# Altium integrated library Renesas Microcontroller H8S.IntLib: 670 symbols (part 66 of 70)
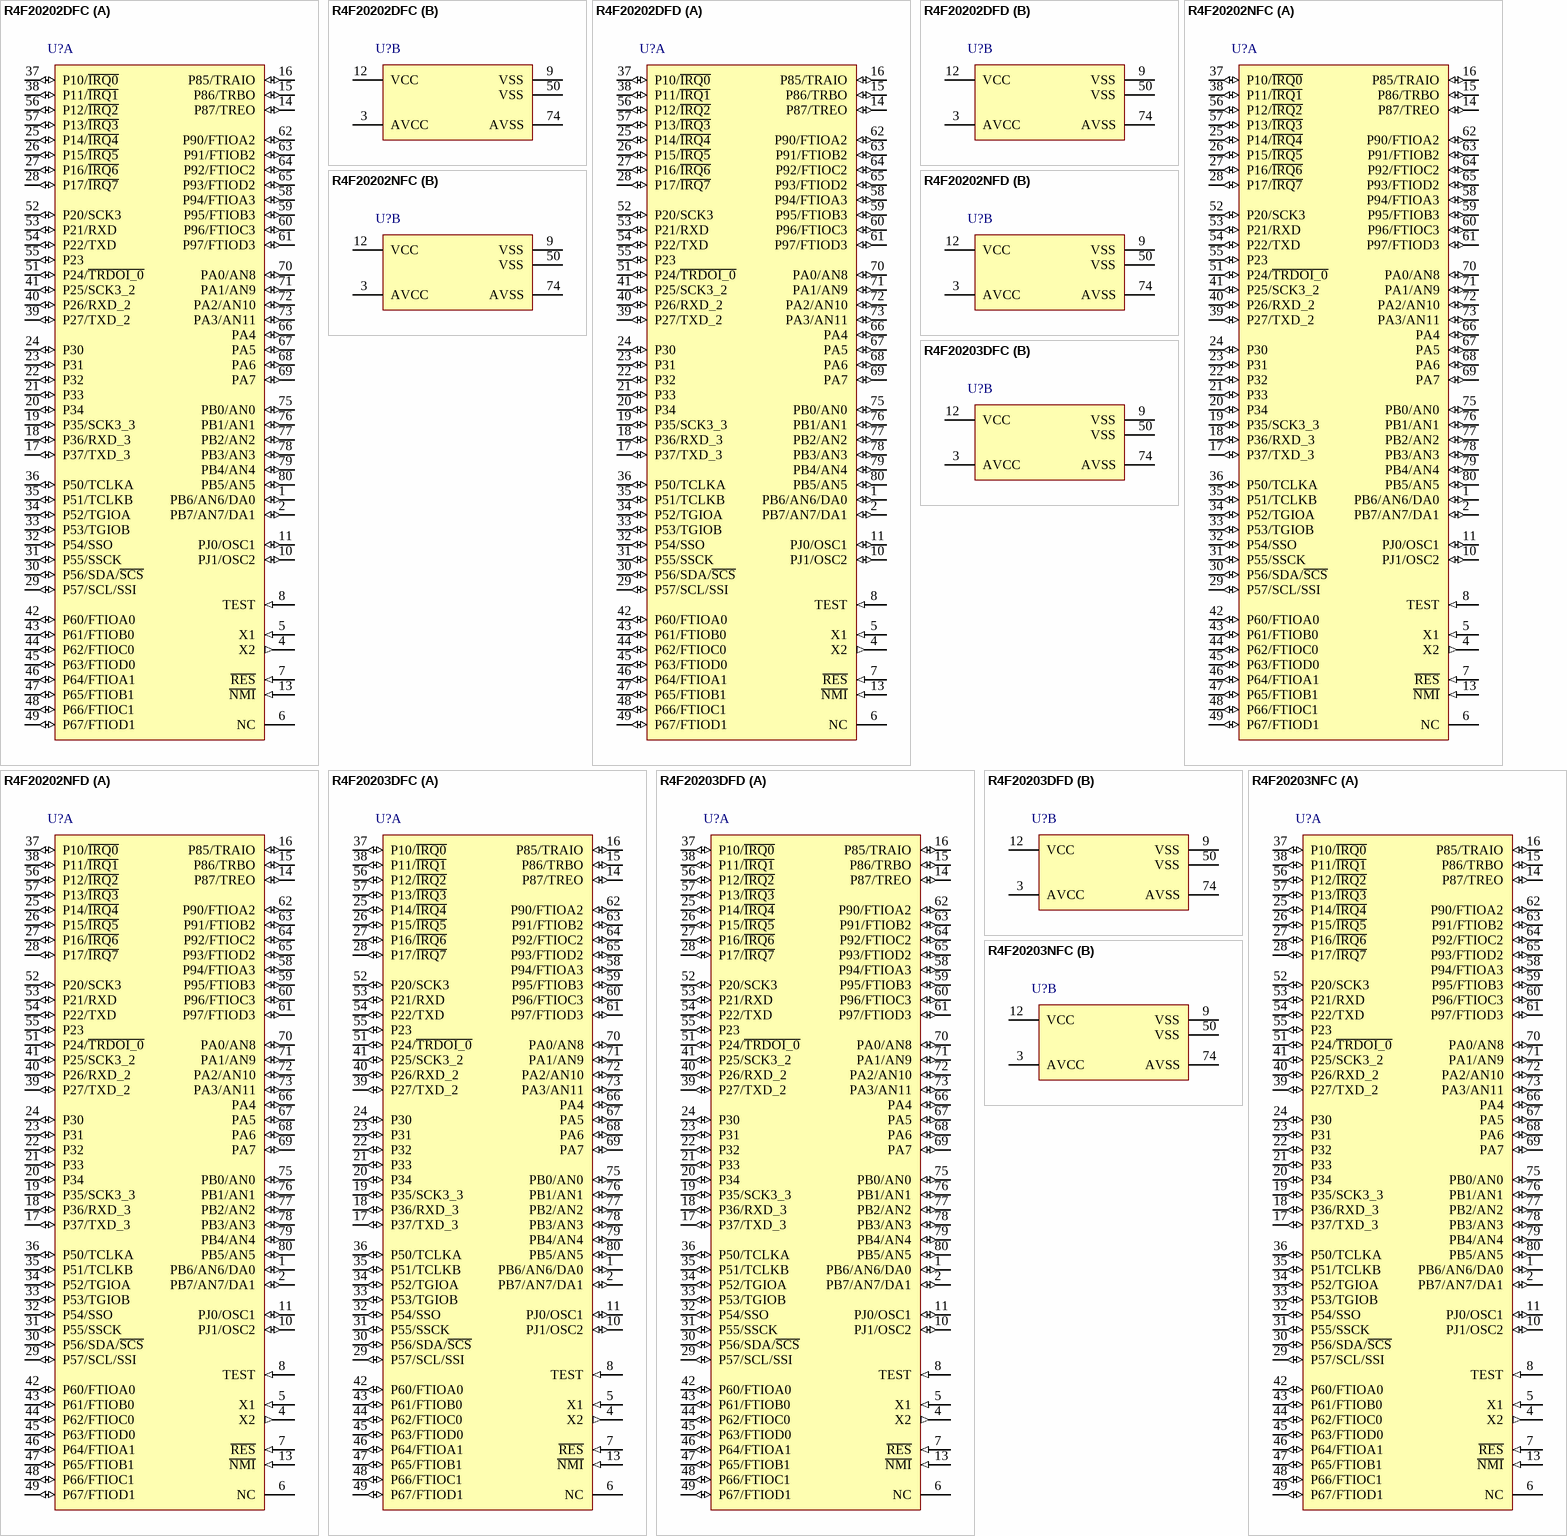
[diagram p377: symbols R4F20202DFC to R4F20203NFC]

## R4F20202DFD
designator U?
Flash memory H8S/Tiny Series, 20203 Group MCU, 96K ROM, 8K RAM, FP-80W Pkg; Published: 28-Aug-2009; DatasheetVersion: Rev.2.00, Jun-2009; PackageVersion: Sep-2005; PackageReference: PLQP0080JA-A; Publisher: Altium Limited; PackageDescription: 80-Pin Plastic Low Profile QFP, 14 x 14 x 1.4 mm Body, 0.65 mm Pitch; Code_JEITA: P-LQFP80-14x14-0.65; ComponentLink1Description: Manufacturer Link; ComponentLink1URL: http://sg.renesas.com/fmwk.jsp?cnt=h8s_family_landing.jsp&fp=/products/mpumcu/h8s_family/; ComponentLink2Description: Datasheet; ComponentLink2URL: http://documentation.renesas.com/eng/products/mpumcu/rej09b0465_h8s20103hm.pdf; ComponentLink3Description: Packaging Specification; ComponentLink3URL: http://sg.renesas.com/media/products/common_info/package/pdf/ic/code/plqp0080ja_a.pdf
footprint PLQP0080JA-A_N (QFP, 80-Leads, Body 14x14mm, Pitch 0.65mm, IPC Medium Density)
footprint PLQP0080JA-A_L (QFP, 80-Leads, Body 14x14mm, Pitch 0.65mm, IPC High Density)
footprint PLQP0080JA-A_M (QFP, 80-Leads, Body 14x14mm, Pitch 0.65mm, IPC Low Density)
part A pins: 1 PB6/AN6/DA0 (io), 2 PB7/AN7/DA1 (io), 4 X2 (out), 5 X1 (in), 6 NC, 7 ~{RES} (in), 8 TEST (in), 10 PJ1/OSC2 (io), 11 PJ0/OSC1 (io), 13 ~{NMI} (in), 14 P87/TREO (io), 15 P86/TRBO (io), 16 P85/TRAIO (io), 17 P37/TXD_3 (io), 18 P36/RXD_3 (io), 19 P35/SCK3_3 (io), 20 P34 (io), 21 P33 (io), 22 P32 (io), 23 P31 (io), 24 P30 (io), 25 P14/~{IRQ4} (io), 26 P15/~{IRQ5} (io), 27 P16/~{IRQ6} (io), 28 P17/~{IRQ7} (io), 29 P57/SCL/SSI (io), 30 P56/SDA/~{SCS} (io), 31 P55/SSCK (io), 32 P54/SSO (io), 33 P53/TGIOB (io), 34 P52/TGIOA (io), 35 P51/TCLKB (io), 36 P50/TCLKA (io), 37 P10/~{IRQ0} (io), 38 P11/~{IRQ1} (io), 39 P27/TXD_2 (io), 40 P26/RXD_2 (io), 41 P25/SCK3_2 (io), 42 P60/FTIOA0 (io), 43 P61/FTIOB0 (io), 44 P62/FTIOC0 (io), 45 P63/FTIOD0 (io), 46 P64/FTIOA1 (io), 47 P65/FTIOB1 (io), 48 P66/FTIOC1 (io), 49 P67/FTIOD1 (io), 51 P24/~{TRDOI_0} (io), 52 P20/SCK3 (io), 53 P21/RXD (io), 54 P22/TXD (io), 55 P23 (io), 56 P12/~{IRQ2} (io), 57 P13/~{IRQ3} (io), 58 P94/FTIOA3 (io), 59 P95/FTIOB3 (io), 60 P96/FTIOC3 (io), 61 P97/FTIOD3 (io), 62 P90/FTIOA2 (io), 63 P91/FTIOB2 (io), 64 P92/FTIOC2 (io), 65 P93/FTIOD2 (io), 66 PA4 (io), 67 PA5 (io), 68 PA6 (io), 69 PA7 (io), 70 PA0/AN8 (io), 71 PA1/AN9 (io), 72 PA2/AN10 (io), 73 PA3/AN11 (io), 75 PB0/AN0 (io), 76 PB1/AN1 (io), 77 PB2/AN2 (io), 78 PB3/AN3 (io), 79 PB4/AN4 (io), 80 PB5/AN5 (io)
part B pins: 3 AVCC (power), 9 VSS (power), 12 VCC (power), 50 VSS (power), 74 AVSS (power)

## R4F20202NFC
designator U?
Flash memory H8S/Tiny Series, 20203 Group MCU, 96K ROM, 8K RAM, 80P6Q-A Pkg; Published: 28-Aug-2009; DatasheetVersion: Rev.2.00, Jun-2009; PackageVersion: Sep-2005; PackageReference: PLQP0080KB-A; Publisher: Altium Limited; PackageDescription: 80-Pin Plastic Low Profile QFP, 12 x 12 x 1.4 mm Body, 0.5 mm Pitch; Code_JEITA: P-LQFP80-12x12-0.50; Code_IPC: SQFP50P1400X1400-80; ComponentLink1Description: Manufacturer Link; ComponentLink1URL: http://sg.renesas.com/fmwk.jsp?cnt=h8s_family_landing.jsp&fp=/products/mpumcu/h8s_family/; ComponentLink2Description: Datasheet; ComponentLink2URL: http://documentation.renesas.com/eng/products/mpumcu/rej09b0465_h8s20103hm.pdf; ComponentLink3Description: Packaging Specification; ComponentLink3URL: http://sg.renesas.com/media/products/common_info/package/pdf/ic/code/plqp0080kb_a.pdf
footprint PLQP0080KB-A_N (Shrink QFP, 80-Leads, Body 12x12mm, Pitch 0.5mm, IPC Medium Density)
footprint PLQP0080KB-A_L (Shrink QFP, 80-Leads, Body 12x12mm, Pitch 0.5mm, IPC High Density)
footprint PLQP0080KB-A_M (Shrink QFP, 80-Leads, Body 12x12mm, Pitch 0.5mm, IPC Low Density)
part A pins: 1 PB6/AN6/DA0 (io), 2 PB7/AN7/DA1 (io), 4 X2 (out), 5 X1 (in), 6 NC, 7 ~{RES} (in), 8 TEST (in), 10 PJ1/OSC2 (io), 11 PJ0/OSC1 (io), 13 ~{NMI} (in), 14 P87/TREO (io), 15 P86/TRBO (io), 16 P85/TRAIO (io), 17 P37/TXD_3 (io), 18 P36/RXD_3 (io), 19 P35/SCK3_3 (io), 20 P34 (io), 21 P33 (io), 22 P32 (io), 23 P31 (io), 24 P30 (io), 25 P14/~{IRQ4} (io), 26 P15/~{IRQ5} (io), 27 P16/~{IRQ6} (io), 28 P17/~{IRQ7} (io), 29 P57/SCL/SSI (io), 30 P56/SDA/~{SCS} (io), 31 P55/SSCK (io), 32 P54/SSO (io), 33 P53/TGIOB (io), 34 P52/TGIOA (io), 35 P51/TCLKB (io), 36 P50/TCLKA (io), 37 P10/~{IRQ0} (io), 38 P11/~{IRQ1} (io), 39 P27/TXD_2 (io), 40 P26/RXD_2 (io), 41 P25/SCK3_2 (io), 42 P60/FTIOA0 (io), 43 P61/FTIOB0 (io), 44 P62/FTIOC0 (io), 45 P63/FTIOD0 (io), 46 P64/FTIOA1 (io), 47 P65/FTIOB1 (io), 48 P66/FTIOC1 (io), 49 P67/FTIOD1 (io), 51 P24/~{TRDOI_0} (io), 52 P20/SCK3 (io), 53 P21/RXD (io), 54 P22/TXD (io), 55 P23 (io), 56 P12/~{IRQ2} (io), 57 P13/~{IRQ3} (io), 58 P94/FTIOA3 (io), 59 P95/FTIOB3 (io), 60 P96/FTIOC3 (io), 61 P97/FTIOD3 (io), 62 P90/FTIOA2 (io), 63 P91/FTIOB2 (io), 64 P92/FTIOC2 (io), 65 P93/FTIOD2 (io), 66 PA4 (io), 67 PA5 (io), 68 PA6 (io), 69 PA7 (io), 70 PA0/AN8 (io), 71 PA1/AN9 (io), 72 PA2/AN10 (io), 73 PA3/AN11 (io), 75 PB0/AN0 (io), 76 PB1/AN1 (io), 77 PB2/AN2 (io), 78 PB3/AN3 (io), 79 PB4/AN4 (io), 80 PB5/AN5 (io)
part B pins: 3 AVCC (power), 9 VSS (power), 12 VCC (power), 50 VSS (power), 74 AVSS (power)

## R4F20202NFD
designator U?
Flash memory H8S/Tiny Series, 20203 Group MCU, 96K ROM, 8K RAM, FP-80W Pkg; Published: 28-Aug-2009; DatasheetVersion: Rev.2.00, Jun-2009; PackageVersion: Sep-2005; PackageReference: PLQP0080JA-A; Publisher: Altium Limited; PackageDescription: 80-Pin Plastic Low Profile QFP, 14 x 14 x 1.4 mm Body, 0.65 mm Pitch; Code_JEITA: P-LQFP80-14x14-0.65; ComponentLink1Description: Manufacturer Link; ComponentLink1URL: http://sg.renesas.com/fmwk.jsp?cnt=h8s_family_landing.jsp&fp=/products/mpumcu/h8s_family/; ComponentLink2Description: Datasheet; ComponentLink2URL: http://documentation.renesas.com/eng/products/mpumcu/rej09b0465_h8s20103hm.pdf; ComponentLink3Description: Packaging Specification; ComponentLink3URL: http://sg.renesas.com/media/products/common_info/package/pdf/ic/code/plqp0080ja_a.pdf
footprint PLQP0080JA-A_N (QFP, 80-Leads, Body 14x14mm, Pitch 0.65mm, IPC Medium Density)
footprint PLQP0080JA-A_L (QFP, 80-Leads, Body 14x14mm, Pitch 0.65mm, IPC High Density)
footprint PLQP0080JA-A_M (QFP, 80-Leads, Body 14x14mm, Pitch 0.65mm, IPC Low Density)
part A pins: 1 PB6/AN6/DA0 (io), 2 PB7/AN7/DA1 (io), 4 X2 (out), 5 X1 (in), 6 NC, 7 ~{RES} (in), 8 TEST (in), 10 PJ1/OSC2 (io), 11 PJ0/OSC1 (io), 13 ~{NMI} (in), 14 P87/TREO (io), 15 P86/TRBO (io), 16 P85/TRAIO (io), 17 P37/TXD_3 (io), 18 P36/RXD_3 (io), 19 P35/SCK3_3 (io), 20 P34 (io), 21 P33 (io), 22 P32 (io), 23 P31 (io), 24 P30 (io), 25 P14/~{IRQ4} (io), 26 P15/~{IRQ5} (io), 27 P16/~{IRQ6} (io), 28 P17/~{IRQ7} (io), 29 P57/SCL/SSI (io), 30 P56/SDA/~{SCS} (io), 31 P55/SSCK (io), 32 P54/SSO (io), 33 P53/TGIOB (io), 34 P52/TGIOA (io), 35 P51/TCLKB (io), 36 P50/TCLKA (io), 37 P10/~{IRQ0} (io), 38 P11/~{IRQ1} (io), 39 P27/TXD_2 (io), 40 P26/RXD_2 (io), 41 P25/SCK3_2 (io), 42 P60/FTIOA0 (io), 43 P61/FTIOB0 (io), 44 P62/FTIOC0 (io), 45 P63/FTIOD0 (io), 46 P64/FTIOA1 (io), 47 P65/FTIOB1 (io), 48 P66/FTIOC1 (io), 49 P67/FTIOD1 (io), 51 P24/~{TRDOI_0} (io), 52 P20/SCK3 (io), 53 P21/RXD (io), 54 P22/TXD (io), 55 P23 (io), 56 P12/~{IRQ2} (io), 57 P13/~{IRQ3} (io), 58 P94/FTIOA3 (io), 59 P95/FTIOB3 (io), 60 P96/FTIOC3 (io), 61 P97/FTIOD3 (io), 62 P90/FTIOA2 (io), 63 P91/FTIOB2 (io), 64 P92/FTIOC2 (io), 65 P93/FTIOD2 (io), 66 PA4 (io), 67 PA5 (io), 68 PA6 (io), 69 PA7 (io), 70 PA0/AN8 (io), 71 PA1/AN9 (io), 72 PA2/AN10 (io), 73 PA3/AN11 (io), 75 PB0/AN0 (io), 76 PB1/AN1 (io), 77 PB2/AN2 (io), 78 PB3/AN3 (io), 79 PB4/AN4 (io), 80 PB5/AN5 (io)
part B pins: 3 AVCC (power), 9 VSS (power), 12 VCC (power), 50 VSS (power), 74 AVSS (power)

## R4F20203DFC
designator U?
Flash memory H8S/Tiny Series, 20203 Group MCU, 128K ROM, 8K RAM, 80P6Q-A Pkg; Published: 28-Aug-2009; DatasheetVersion: Rev.2.00, Jun-2009; PackageVersion: Sep-2005; PackageReference: PLQP0080KB-A; Publisher: Altium Limited; PackageDescription: 80-Pin Plastic Low Profile QFP, 12 x 12 x 1.4 mm Body, 0.5 mm Pitch; Code_JEITA: P-LQFP80-12x12-0.50; Code_IPC: SQFP50P1400X1400-80; ComponentLink1Description: Manufacturer Link; ComponentLink1URL: http://sg.renesas.com/fmwk.jsp?cnt=h8s_family_landing.jsp&fp=/products/mpumcu/h8s_family/; ComponentLink2Description: Datasheet; ComponentLink2URL: http://documentation.renesas.com/eng/products/mpumcu/rej09b0465_h8s20103hm.pdf; ComponentLink3Description: Packaging Specification; ComponentLink3URL: http://sg.renesas.com/media/products/common_info/package/pdf/ic/code/plqp0080kb_a.pdf
footprint PLQP0080KB-A_N (Shrink QFP, 80-Leads, Body 12x12mm, Pitch 0.5mm, IPC Medium Density)
footprint PLQP0080KB-A_L (Shrink QFP, 80-Leads, Body 12x12mm, Pitch 0.5mm, IPC High Density)
footprint PLQP0080KB-A_M (Shrink QFP, 80-Leads, Body 12x12mm, Pitch 0.5mm, IPC Low Density)
part A pins: 1 PB6/AN6/DA0 (io), 2 PB7/AN7/DA1 (io), 4 X2 (out), 5 X1 (in), 6 NC, 7 ~{RES} (in), 8 TEST (in), 10 PJ1/OSC2 (io), 11 PJ0/OSC1 (io), 13 ~{NMI} (in), 14 P87/TREO (io), 15 P86/TRBO (io), 16 P85/TRAIO (io), 17 P37/TXD_3 (io), 18 P36/RXD_3 (io), 19 P35/SCK3_3 (io), 20 P34 (io), 21 P33 (io), 22 P32 (io), 23 P31 (io), 24 P30 (io), 25 P14/~{IRQ4} (io), 26 P15/~{IRQ5} (io), 27 P16/~{IRQ6} (io), 28 P17/~{IRQ7} (io), 29 P57/SCL/SSI (io), 30 P56/SDA/~{SCS} (io), 31 P55/SSCK (io), 32 P54/SSO (io), 33 P53/TGIOB (io), 34 P52/TGIOA (io), 35 P51/TCLKB (io), 36 P50/TCLKA (io), 37 P10/~{IRQ0} (io), 38 P11/~{IRQ1} (io), 39 P27/TXD_2 (io), 40 P26/RXD_2 (io), 41 P25/SCK3_2 (io), 42 P60/FTIOA0 (io), 43 P61/FTIOB0 (io), 44 P62/FTIOC0 (io), 45 P63/FTIOD0 (io), 46 P64/FTIOA1 (io), 47 P65/FTIOB1 (io), 48 P66/FTIOC1 (io), 49 P67/FTIOD1 (io), 51 P24/~{TRDOI_0} (io), 52 P20/SCK3 (io), 53 P21/RXD (io), 54 P22/TXD (io), 55 P23 (io), 56 P12/~{IRQ2} (io), 57 P13/~{IRQ3} (io), 58 P94/FTIOA3 (io), 59 P95/FTIOB3 (io), 60 P96/FTIOC3 (io), 61 P97/FTIOD3 (io), 62 P90/FTIOA2 (io), 63 P91/FTIOB2 (io), 64 P92/FTIOC2 (io), 65 P93/FTIOD2 (io), 66 PA4 (io), 67 PA5 (io), 68 PA6 (io), 69 PA7 (io), 70 PA0/AN8 (io), 71 PA1/AN9 (io), 72 PA2/AN10 (io), 73 PA3/AN11 (io), 75 PB0/AN0 (io), 76 PB1/AN1 (io), 77 PB2/AN2 (io), 78 PB3/AN3 (io), 79 PB4/AN4 (io), 80 PB5/AN5 (io)
part B pins: 3 AVCC (power), 9 VSS (power), 12 VCC (power), 50 VSS (power), 74 AVSS (power)

## R4F20203DFD
designator U?
Flash memory H8S/Tiny Series, 20203 Group MCU, 128K ROM, 8K RAM, FP-80W Pkg; Published: 28-Aug-2009; DatasheetVersion: Rev.2.00, Jun-2009; PackageVersion: Sep-2005; PackageReference: PLQP0080JA-A; Publisher: Altium Limited; PackageDescription: 80-Pin Plastic Low Profile QFP, 14 x 14 x 1.4 mm Body, 0.65 mm Pitch; Code_JEITA: P-LQFP80-14x14-0.65; ComponentLink1Description: Manufacturer Link; ComponentLink1URL: http://sg.renesas.com/fmwk.jsp?cnt=h8s_family_landing.jsp&fp=/products/mpumcu/h8s_family/; ComponentLink2Description: Datasheet; ComponentLink2URL: http://documentation.renesas.com/eng/products/mpumcu/rej09b0465_h8s20103hm.pdf; ComponentLink3Description: Packaging Specification; ComponentLink3URL: http://sg.renesas.com/media/products/common_info/package/pdf/ic/code/plqp0080ja_a.pdf
footprint PLQP0080JA-A_N (QFP, 80-Leads, Body 14x14mm, Pitch 0.65mm, IPC Medium Density)
footprint PLQP0080JA-A_L (QFP, 80-Leads, Body 14x14mm, Pitch 0.65mm, IPC High Density)
footprint PLQP0080JA-A_M (QFP, 80-Leads, Body 14x14mm, Pitch 0.65mm, IPC Low Density)
part A pins: 1 PB6/AN6/DA0 (io), 2 PB7/AN7/DA1 (io), 4 X2 (out), 5 X1 (in), 6 NC, 7 ~{RES} (in), 8 TEST (in), 10 PJ1/OSC2 (io), 11 PJ0/OSC1 (io), 13 ~{NMI} (in), 14 P87/TREO (io), 15 P86/TRBO (io), 16 P85/TRAIO (io), 17 P37/TXD_3 (io), 18 P36/RXD_3 (io), 19 P35/SCK3_3 (io), 20 P34 (io), 21 P33 (io), 22 P32 (io), 23 P31 (io), 24 P30 (io), 25 P14/~{IRQ4} (io), 26 P15/~{IRQ5} (io), 27 P16/~{IRQ6} (io), 28 P17/~{IRQ7} (io), 29 P57/SCL/SSI (io), 30 P56/SDA/~{SCS} (io), 31 P55/SSCK (io), 32 P54/SSO (io), 33 P53/TGIOB (io), 34 P52/TGIOA (io), 35 P51/TCLKB (io), 36 P50/TCLKA (io), 37 P10/~{IRQ0} (io), 38 P11/~{IRQ1} (io), 39 P27/TXD_2 (io), 40 P26/RXD_2 (io), 41 P25/SCK3_2 (io), 42 P60/FTIOA0 (io), 43 P61/FTIOB0 (io), 44 P62/FTIOC0 (io), 45 P63/FTIOD0 (io), 46 P64/FTIOA1 (io), 47 P65/FTIOB1 (io), 48 P66/FTIOC1 (io), 49 P67/FTIOD1 (io), 51 P24/~{TRDOI_0} (io), 52 P20/SCK3 (io), 53 P21/RXD (io), 54 P22/TXD (io), 55 P23 (io), 56 P12/~{IRQ2} (io), 57 P13/~{IRQ3} (io), 58 P94/FTIOA3 (io), 59 P95/FTIOB3 (io), 60 P96/FTIOC3 (io), 61 P97/FTIOD3 (io), 62 P90/FTIOA2 (io), 63 P91/FTIOB2 (io), 64 P92/FTIOC2 (io), 65 P93/FTIOD2 (io), 66 PA4 (io), 67 PA5 (io), 68 PA6 (io), 69 PA7 (io), 70 PA0/AN8 (io), 71 PA1/AN9 (io), 72 PA2/AN10 (io), 73 PA3/AN11 (io), 75 PB0/AN0 (io), 76 PB1/AN1 (io), 77 PB2/AN2 (io), 78 PB3/AN3 (io), 79 PB4/AN4 (io), 80 PB5/AN5 (io)
part B pins: 3 AVCC (power), 9 VSS (power), 12 VCC (power), 50 VSS (power), 74 AVSS (power)

## R4F20203NFC
designator U?
Flash memory H8S/Tiny Series, 20203 Group MCU, 128K ROM, 8K RAM, 80P6Q-A Pkg; Published: 28-Aug-2009; DatasheetVersion: Rev.2.00, Jun-2009; PackageVersion: Sep-2005; PackageReference: PLQP0080KB-A; Publisher: Altium Limited; PackageDescription: 80-Pin Plastic Low Profile QFP, 12 x 12 x 1.4 mm Body, 0.5 mm Pitch; Code_JEITA: P-LQFP80-12x12-0.50; Code_IPC: SQFP50P1400X1400-80; ComponentLink1Description: Manufacturer Link; ComponentLink1URL: http://sg.renesas.com/fmwk.jsp?cnt=h8s_family_landing.jsp&fp=/products/mpumcu/h8s_family/; ComponentLink2Description: Datasheet; ComponentLink2URL: http://documentation.renesas.com/eng/products/mpumcu/rej09b0465_h8s20103hm.pdf; ComponentLink3Description: Packaging Specification; ComponentLink3URL: http://sg.renesas.com/media/products/common_info/package/pdf/ic/code/plqp0080kb_a.pdf
footprint PLQP0080KB-A_N (Shrink QFP, 80-Leads, Body 12x12mm, Pitch 0.5mm, IPC Medium Density)
footprint PLQP0080KB-A_L (Shrink QFP, 80-Leads, Body 12x12mm, Pitch 0.5mm, IPC High Density)
footprint PLQP0080KB-A_M (Shrink QFP, 80-Leads, Body 12x12mm, Pitch 0.5mm, IPC Low Density)
part A pins: 1 PB6/AN6/DA0 (io), 2 PB7/AN7/DA1 (io), 4 X2 (out), 5 X1 (in), 6 NC, 7 ~{RES} (in), 8 TEST (in), 10 PJ1/OSC2 (io), 11 PJ0/OSC1 (io), 13 ~{NMI} (in), 14 P87/TREO (io), 15 P86/TRBO (io), 16 P85/TRAIO (io), 17 P37/TXD_3 (io), 18 P36/RXD_3 (io), 19 P35/SCK3_3 (io), 20 P34 (io), 21 P33 (io), 22 P32 (io), 23 P31 (io), 24 P30 (io), 25 P14/~{IRQ4} (io), 26 P15/~{IRQ5} (io), 27 P16/~{IRQ6} (io), 28 P17/~{IRQ7} (io), 29 P57/SCL/SSI (io), 30 P56/SDA/~{SCS} (io), 31 P55/SSCK (io), 32 P54/SSO (io), 33 P53/TGIOB (io), 34 P52/TGIOA (io), 35 P51/TCLKB (io), 36 P50/TCLKA (io), 37 P10/~{IRQ0} (io), 38 P11/~{IRQ1} (io), 39 P27/TXD_2 (io), 40 P26/RXD_2 (io), 41 P25/SCK3_2 (io), 42 P60/FTIOA0 (io), 43 P61/FTIOB0 (io), 44 P62/FTIOC0 (io), 45 P63/FTIOD0 (io), 46 P64/FTIOA1 (io), 47 P65/FTIOB1 (io), 48 P66/FTIOC1 (io), 49 P67/FTIOD1 (io), 51 P24/~{TRDOI_0} (io), 52 P20/SCK3 (io), 53 P21/RXD (io), 54 P22/TXD (io), 55 P23 (io), 56 P12/~{IRQ2} (io), 57 P13/~{IRQ3} (io), 58 P94/FTIOA3 (io), 59 P95/FTIOB3 (io), 60 P96/FTIOC3 (io), 61 P97/FTIOD3 (io), 62 P90/FTIOA2 (io), 63 P91/FTIOB2 (io), 64 P92/FTIOC2 (io), 65 P93/FTIOD2 (io), 66 PA4 (io), 67 PA5 (io), 68 PA6 (io), 69 PA7 (io), 70 PA0/AN8 (io), 71 PA1/AN9 (io), 72 PA2/AN10 (io), 73 PA3/AN11 (io), 75 PB0/AN0 (io), 76 PB1/AN1 (io), 77 PB2/AN2 (io), 78 PB3/AN3 (io), 79 PB4/AN4 (io), 80 PB5/AN5 (io)
part B pins: 3 AVCC (power), 9 VSS (power), 12 VCC (power), 50 VSS (power), 74 AVSS (power)

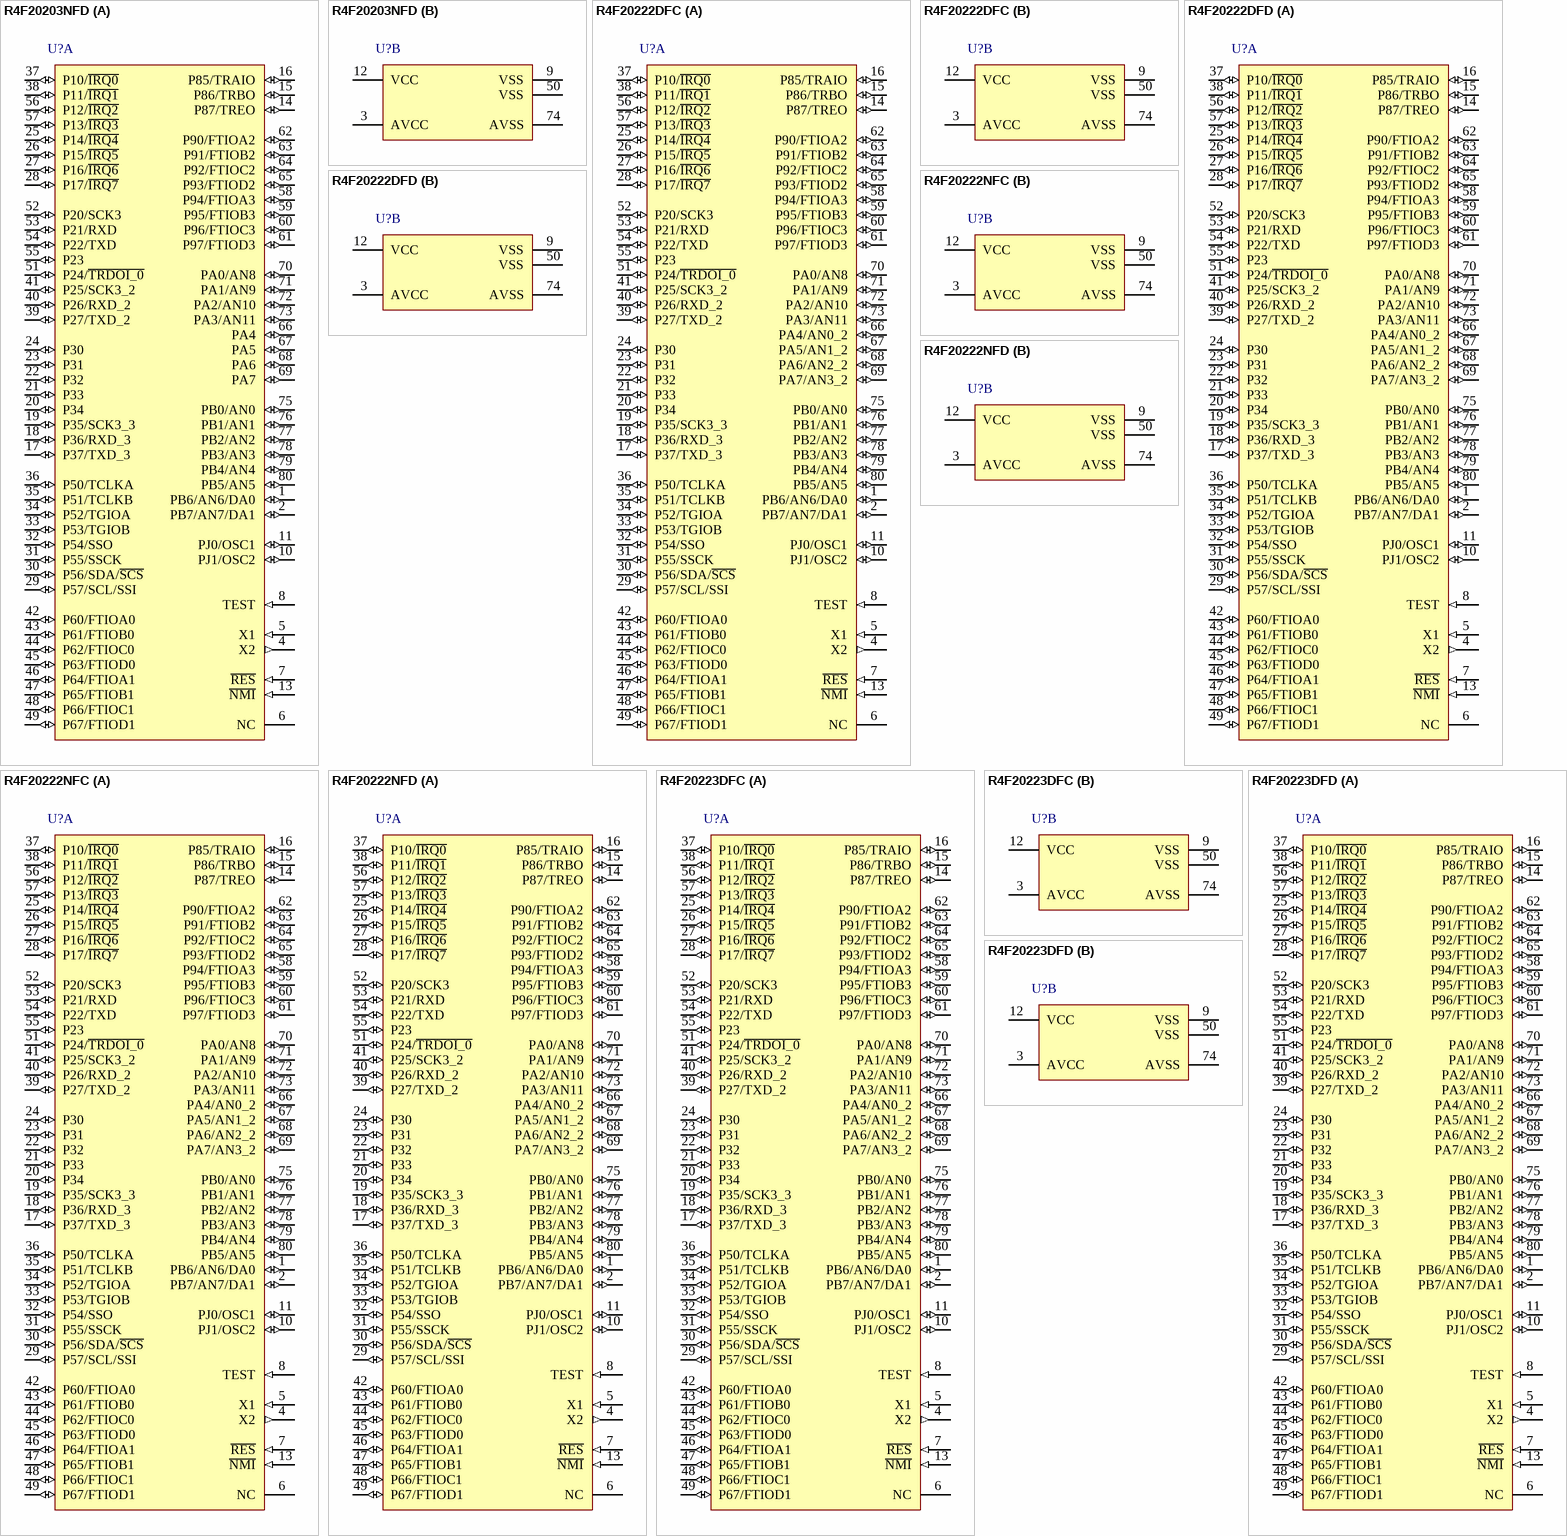
[diagram p229: symbols R4F20203NFD to R4F20223DFD]

## R4F20203NFD
designator U?
Flash memory H8S/Tiny Series, 20203 Group MCU, 128K ROM, 8K RAM, FP-80W Pkg; Published: 28-Aug-2009; DatasheetVersion: Rev.2.00, Jun-2009; PackageVersion: Sep-2005; PackageReference: PLQP0080JA-A; Publisher: Altium Limited; PackageDescription: 80-Pin Plastic Low Profile QFP, 14 x 14 x 1.4 mm Body, 0.65 mm Pitch; Code_JEITA: P-LQFP80-14x14-0.65; ComponentLink1Description: Manufacturer Link; ComponentLink1URL: http://sg.renesas.com/fmwk.jsp?cnt=h8s_family_landing.jsp&fp=/products/mpumcu/h8s_family/; ComponentLink2Description: Datasheet; ComponentLink2URL: http://documentation.renesas.com/eng/products/mpumcu/rej09b0465_h8s20103hm.pdf; ComponentLink3Description: Packaging Specification; ComponentLink3URL: http://sg.renesas.com/media/products/common_info/package/pdf/ic/code/plqp0080ja_a.pdf
footprint PLQP0080JA-A_N (QFP, 80-Leads, Body 14x14mm, Pitch 0.65mm, IPC Medium Density)
footprint PLQP0080JA-A_L (QFP, 80-Leads, Body 14x14mm, Pitch 0.65mm, IPC High Density)
footprint PLQP0080JA-A_M (QFP, 80-Leads, Body 14x14mm, Pitch 0.65mm, IPC Low Density)
part A pins: 1 PB6/AN6/DA0 (io), 2 PB7/AN7/DA1 (io), 4 X2 (out), 5 X1 (in), 6 NC, 7 ~{RES} (in), 8 TEST (in), 10 PJ1/OSC2 (io), 11 PJ0/OSC1 (io), 13 ~{NMI} (in), 14 P87/TREO (io), 15 P86/TRBO (io), 16 P85/TRAIO (io), 17 P37/TXD_3 (io), 18 P36/RXD_3 (io), 19 P35/SCK3_3 (io), 20 P34 (io), 21 P33 (io), 22 P32 (io), 23 P31 (io), 24 P30 (io), 25 P14/~{IRQ4} (io), 26 P15/~{IRQ5} (io), 27 P16/~{IRQ6} (io), 28 P17/~{IRQ7} (io), 29 P57/SCL/SSI (io), 30 P56/SDA/~{SCS} (io), 31 P55/SSCK (io), 32 P54/SSO (io), 33 P53/TGIOB (io), 34 P52/TGIOA (io), 35 P51/TCLKB (io), 36 P50/TCLKA (io), 37 P10/~{IRQ0} (io), 38 P11/~{IRQ1} (io), 39 P27/TXD_2 (io), 40 P26/RXD_2 (io), 41 P25/SCK3_2 (io), 42 P60/FTIOA0 (io), 43 P61/FTIOB0 (io), 44 P62/FTIOC0 (io), 45 P63/FTIOD0 (io), 46 P64/FTIOA1 (io), 47 P65/FTIOB1 (io), 48 P66/FTIOC1 (io), 49 P67/FTIOD1 (io), 51 P24/~{TRDOI_0} (io), 52 P20/SCK3 (io), 53 P21/RXD (io), 54 P22/TXD (io), 55 P23 (io), 56 P12/~{IRQ2} (io), 57 P13/~{IRQ3} (io), 58 P94/FTIOA3 (io), 59 P95/FTIOB3 (io), 60 P96/FTIOC3 (io), 61 P97/FTIOD3 (io), 62 P90/FTIOA2 (io), 63 P91/FTIOB2 (io), 64 P92/FTIOC2 (io), 65 P93/FTIOD2 (io), 66 PA4 (io), 67 PA5 (io), 68 PA6 (io), 69 PA7 (io), 70 PA0/AN8 (io), 71 PA1/AN9 (io), 72 PA2/AN10 (io), 73 PA3/AN11 (io), 75 PB0/AN0 (io), 76 PB1/AN1 (io), 77 PB2/AN2 (io), 78 PB3/AN3 (io), 79 PB4/AN4 (io), 80 PB5/AN5 (io)
part B pins: 3 AVCC (power), 9 VSS (power), 12 VCC (power), 50 VSS (power), 74 AVSS (power)